# Altium footprint library led.PcbLib: 60 footprints (part 4 of 4)
Each footprint in its own frame and in the unit in brackets; x right, y up, seen from the top. Pads: shape width x height; smd on the part's side, far side on the other; paste and mask are expansions set on the pad; w line width, h text height; cw(c..) or ccw(c..) is an arc to the next point about the centre after c.
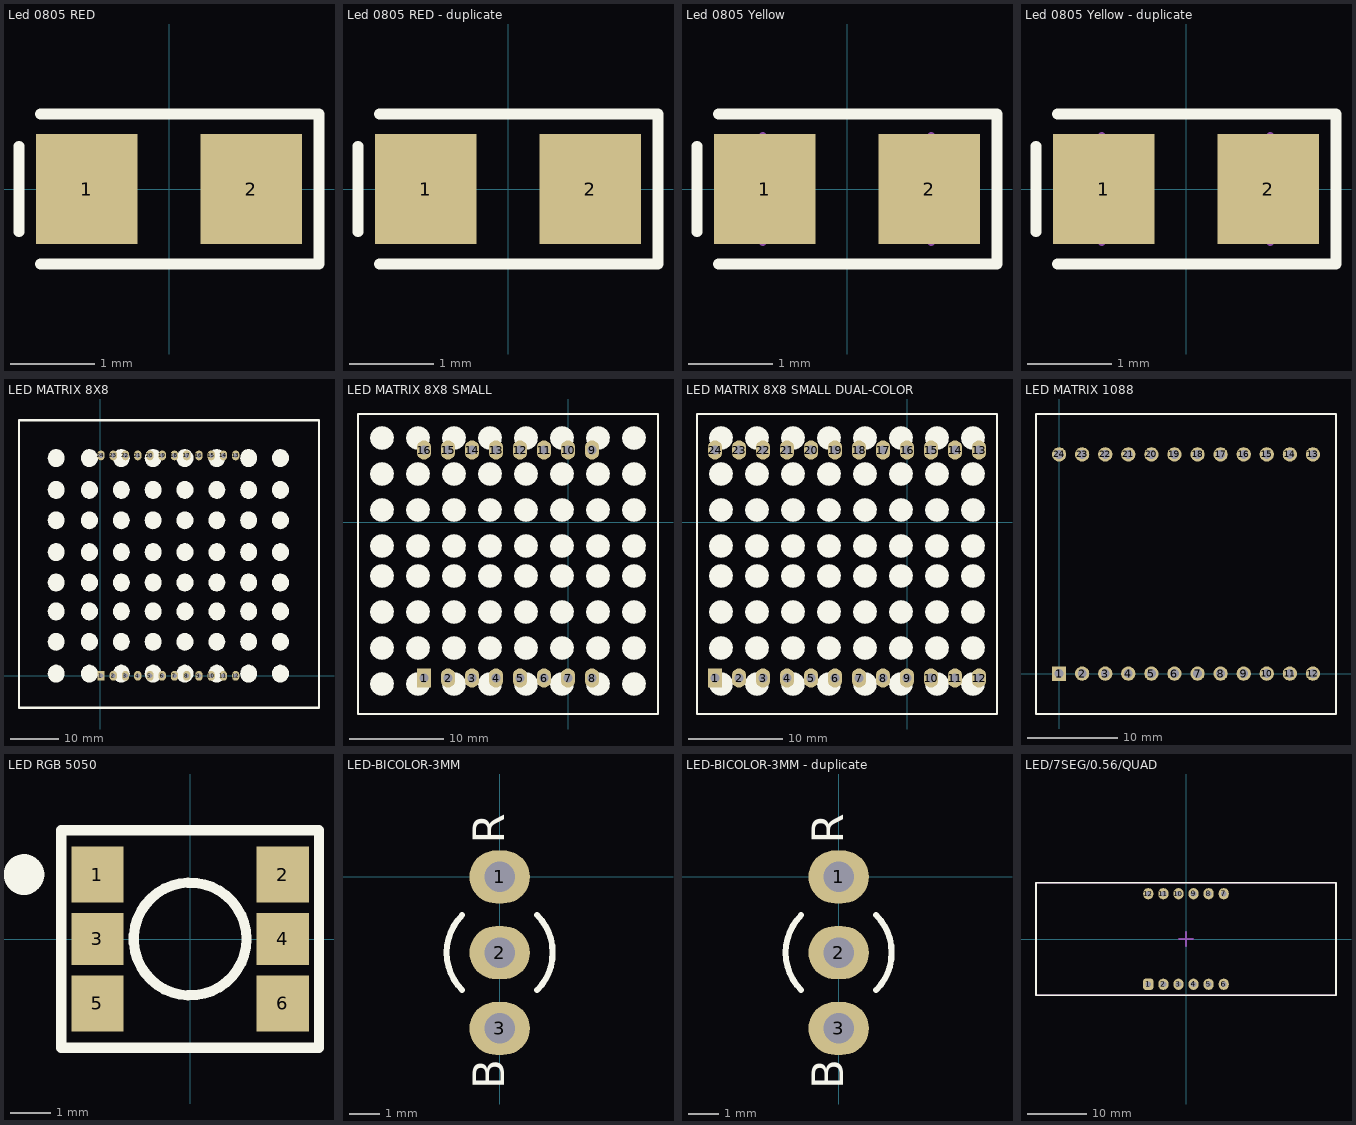
[diagram p3: the footprints below, top view; thin cyan lines are the x and y axes]

## Led 0805 RED [mm] "Led SMD 0805"
height 1.1
pads (2):
  rect 1.2x1.3 smd: 1(-0.975,0) 2(0.975,0)
Top Overlay:
  lines w0.127: -1.778,-0.508 -1.778,0.508 ; -1.524,-0.889 1.778,-0.889 1.778,0.889 -1.524,0.889
3D body "User Library-led_0805-red.step": height 1.1, standoff 0, extent -1.01,-0.625 1.01,0.625

## Led 0805 RED - duplicate [mm] "Led SMD 0805"
height 1.1
pads (2):
  rect 1.2x1.3 smd: 1(-0.975,0) 2(0.975,0)
Top Overlay:
  lines w0.127: -1.778,-0.508 -1.778,0.508 ; -1.524,-0.889 1.778,-0.889 1.778,0.889 -1.524,0.889
3D body "User Library-led_0805-red.step": height 1.1, standoff 0, extent -1.01,-0.625 1.01,0.625

## Led 0805 Yellow [mm] "Led SMD 0805"
height 1.1
pads (2):
  rect 1.2x1.3 smd: 1(-0.975,0) 2(0.975,0)
Top Overlay:
  lines w0.127: -1.778,-0.508 -1.778,0.508 ; -1.524,-0.889 1.778,-0.889 1.778,0.889 -1.524,0.889
Mechanical 13:
  rectangle: -1,-0.625 -0.731,0.625
  lines w0.1: -1,-0.625 -1,0.625 ; 1,-0.625 1,0.625
3D body "User Library-led_0805.step": height 1.1, standoff 0, extent -1.01,-0.625 1.01,0.625

## Led 0805 Yellow - duplicate [mm] "Led SMD 0805"
height 1.1
pads (2):
  rect 1.2x1.3 smd: 1(-0.975,0) 2(0.975,0)
Top Overlay:
  lines w0.127: -1.778,-0.508 -1.778,0.508 ; -1.524,-0.889 1.778,-0.889 1.778,0.889 -1.524,0.889
Mechanical 13:
  rectangle: -1,-0.625 -0.731,0.625
  lines w0.1: -1,-0.625 -1,0.625 ; 1,-0.625 1,0.625
3D body "User Library-led_0805.step": height 1.1, standoff 0, extent -1.01,-0.625 1.01,0.625

## LED MATRIX 8X8 [mil]
pads (24):
  rect 60x80 hole 39: 1(6.35,0)
  oval 60x80 hole 39: 2(106.35,0) 3(206.35,0) 4(306.35,0) 5(406.35,0) 6(506.35,0) 7(606.35,0) 8(706.35,0) 9(806.35,0) 10(906.35,0) 11(1006.35,0) 12(1106.35,0) 13(1106.35,1800) 14(1006.35,1800) 15(906.35,1800) 16(806.35,1800) 17(706.35,1800) 18(606.35,1800) 19(506.35,1800) 20(406.35,1800) 21(306.35,1800) 22(206.35,1800) 23(106.35,1800) 24(6.35,1800)
Top Overlay:
  drawing of 197 lines, arcs and shapes, not listed

## LED MATRIX 8X8 SMALL [mil]
pads (16):
  rect 60x80 hole 38: 1(-600,-650)
  oval 60x80 hole 38: 2(-500,-650) 3(-400,-650) 4(-300,-650) 5(-200,-650) 6(-100,-650) 7(0,-650) 8(100,-650) 9(100,300) 10(0,300) 11(-100,300) 12(-200,300) 13(-300,300) 14(-400,300) 15(-500,300) 16(-600,300)
Top Overlay:
  drawing of 68 lines, arcs and shapes, not listed

## LED MATRIX 8X8 SMALL DUAL-COLOR [mil]
pads (24):
  rect 60x80 hole 38: 1(-800,-650)
  oval 60x80 hole 38: 2(-700,-650) 3(-600,-650) 4(-500,-650) 5(-400,-650) 6(-300,-650) 7(-200,-650) 8(-100,-650) 9(0,-650) 10(100,-650) 11(200,-650) 12(300,-650) 13(300,300) 14(200,300) 15(100,300) 16(0,300) 17(-100,300) 18(-200,300) 19(-300,300) 20(-400,300) 21(-500,300) 22(-600,300) 23(-700,300) 24(-800,300)
Top Overlay:
  drawing of 68 lines, arcs and shapes, not listed

## LED MATRIX 1088 [mil]
pads (24):
  rect 62x62 hole 38: 1(0,0)
  round 62 hole 38: 2(100,0) 3(200,0) 4(300,0) 5(400,0) 6(500,0) 7(600,0) 8(700,0) 9(800,0) 10(900,0) 11(1000,0) 12(1100,0) 13(1100,950) 14(1000,950) 15(900,950) 16(800,950) 17(700,950) 18(600,950) 19(500,950) 20(400,950) 21(300,950) 22(200,950) 23(100,950) 24(0,950)
Top Overlay:
  lines w10: -100,-175 1200,-175 1200,1125 -100,1125 -100,-175

## LED RGB 5050 [mm]
pads (6):
  rect 1.3x1.4 smd: 1(-2.3,1.6) 2(2.3,1.6) 5(-2.3,-1.6) 6(2.3,-1.6)
  rect 1.3x1.3 smd: 3(-2.3,0) 4(2.3,0)
Top Overlay:
  circle w0.762: c-4.124,1.6 r0.124
  circle w0.254: c0,0 r1.4
  lines w0.254: -3.2,-2.7 -3.2,2.7 3.2,2.7 3.2,-2.7 -3.2,-2.7
3D body "User Library-smd_led_5050.step": height 1.6, standoff 0, extent -2.65,-2.5 2.65,2.5

## LED-BICOLOR-3MM [mm] "Diode, Axial; Body 5.2 x 2.7 mm (LxDia. max), Lead Dia. 0.86 mm (max)"
height 2.8
pads (3):
  oval 2x1.75 hole 1: 1(0,0) 2(0,-2.5) 3(0,-5)
Top Overlay:
  lines w0.2: -1.237,-3.737 cw(c0,-2.5) -1.237,-1.263 ; 1.237,-3.737 ccw(c0,-2.5) 1.237,-1.263
  text "R" at 0.5,1.1 h1.8
  text "B" at 0.5,-7 h1.8
3D body "User Library-3mmLED_Thruhole v5.step": height 6.76, standoff -3.28, extent -2.024,-5.294 2.025,0.286

## LED-BICOLOR-3MM - duplicate [mm] "Diode, Axial; Body 5.2 x 2.7 mm (LxDia. max), Lead Dia. 0.86 mm (max)"
height 2.8
pads (3):
  oval 2x1.75 hole 1: 1(0,0) 2(0,-2.5) 3(0,-5)
Top Overlay:
  lines w0.2: -1.237,-3.737 cw(c0,-2.5) -1.237,-1.263 ; 1.237,-3.737 ccw(c0,-2.5) 1.237,-1.263
  text "B" at 0.5,-7 h1.8
  text "R" at 0.5,1.1 h1.8
3D body "User Library-3mmLED_Thruhole v5.step": height 6.76, standoff -3.28, extent -2.024,-5.294 2.025,0.286

## LED/7SEG/0.56/QUAD [mm]
pads (12):
  rrect50% 1.7x1.9 hole 1: 1(-6.35,-7.62)
  oval 1.7x1.9 hole 1: 2(-3.81,-7.62) 3(-1.27,-7.62) 4(1.27,-7.62) 5(3.81,-7.62) 6(6.35,-7.62) 7(6.35,7.62) 8(3.81,7.62) 9(1.27,7.62) 10(-1.27,7.62) 11(-3.81,7.62) 12(-6.35,7.62)
Top Overlay:
  lines w0.254: -25.25,-9.5 -25.25,9.5 25.25,9.5 25.25,-9.5 -25.25,-9.5
Mechanical 1:
  lines w0.254: -1.25,0 0,0 ; 0,-1.25 0,0 ; 0,1.25 0,0 ; 1.25,0 0,0 ; -25.25,-9.5 -25.25,9.5 25.25,9.5 25.25,-9.5 -25.25,-9.5
3D body "User Library-C-564 (7 segment 4 digit LED display).step": height 8, standoff -6.2, extent -25.2,-9.5 25.2,9.5